# Altium schematic symbol library ElectricCircuitTester.SchLib: 7 symbols
Pins are listed as number, name and electrical type; pins without a type are passive.

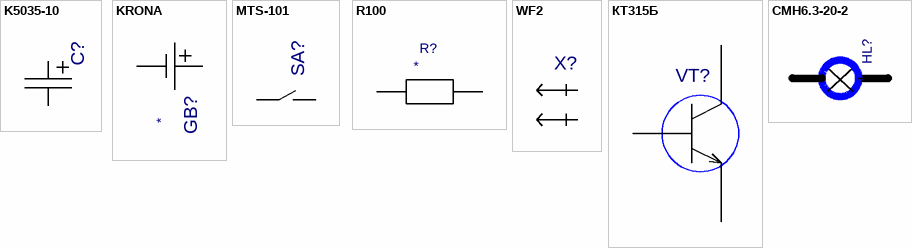
[diagram p0: symbols K5035-10 to СМН6.3-20-2]

## K5035-10
designator C?  (value not drawn)
Value: *
footprint K5035-3
pins: 1 I/OA, 2 I/OB

## KRONA
designator GB?  (value not drawn)
Value: *
footprint KRONA
pins: 1 hidden, 2 hidden, minus 1, plus 2

## MTS-101
designator SA?  (value not drawn)
Value: *
footprint MTS-101
pins: 1, 2

## R100
designator R?  (value not drawn)
Value: *
footprint R100
pins: 1, 2

## WF2
designator X?  (value not drawn)
Value: *
footprint WF2
pins: 1 i/o, 2 i/o

## КТ315Б
designator VT?  (value not drawn)
Value: *
footprint KT13
pins: 1 E, 2 B, 3 K

## СМН6.3-20-2
designator HL?  (value not drawn)
Value: *
footprint HL_MINI
pins: 1, 2